# Altium footprint library C4532X7R1C336M250KC.PcbLib: 3 footprints
Each footprint in its own frame and in the unit in brackets; x right, y up, seen from the top. Pads: shape width x height; smd on the part's side, far side on the other; paste and mask are expansions set on the pad; w line width, h text height; cw(c..) or ccw(c..) is an arc to the next point about the centre after c.
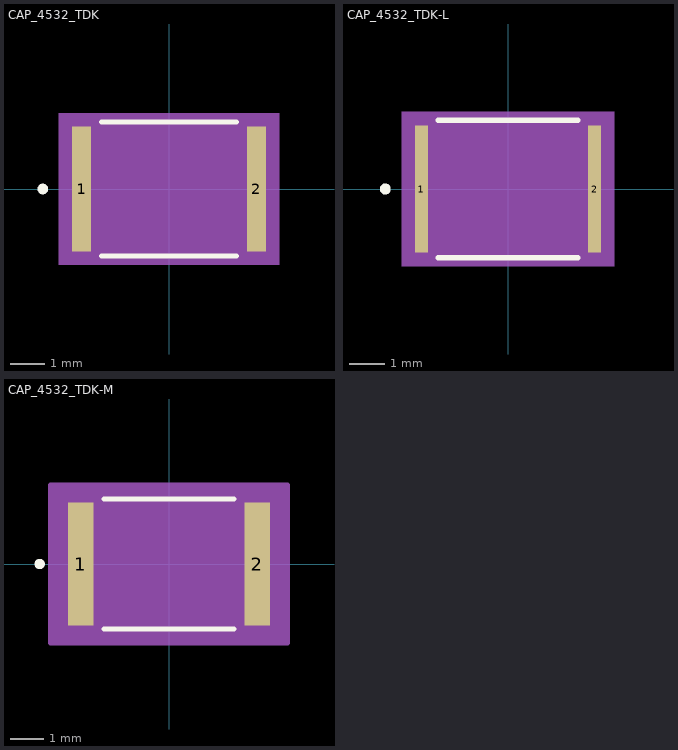
[diagram p0: the footprints below, top view; thin cyan lines are the x and y axes]

## CAP_4532_TDK [mil]
pads (2):
  rect 21.78x142 smd paste+0 mask+0: 1(-99.39,0) 2(99.39,0)
Top Overlay:
  circle w6: c-143.28,0 r3
  lines w6: -76.39,-76 76.39,-76 ; -76.39,76 76.39,76
Mechanical 5:
  region: 125.28,-86 -125.28,-86 -125.28,86 125.28,86
Mechanical 13:
  circle w0: c-94.39,0 r3
  lines w1: -96.5,-71 -96.5,71 ; -96.5,-71 -88.5,-71 -88.5,71 -96.5,71 ; -96.5,-71 96.5,-71 ; -96.5,-71 -96.5,71 ; -96.5,71 96.5,71 ; 96.5,-71 88.5,-71 88.5,71 96.5,71 ; 96.5,-71 96.5,71 ; 96.5,-71 96.5,71
Mechanical 15:
  region: 120.28,-81 -120.28,-81 -120.28,81 120.28,81
  lines w6: -120.28,-81 -120.28,81 120.28,81 120.28,-81 -120.28,-81
3D body "CAP_4532_TDK.step": height 110, standoff 0, extent -96.5,-70.98 96.5,70.98

## CAP_4532_TDK-L [mil]
pads (2):
  rect 13.91x140.03 smd paste+0 mask+0: 1(-95.45,0) 2(95.45,0)
Top Overlay:
  circle w6: c-135.41,0 r3
  lines w6: -76.85,-76 76.85,-76 ; -76.85,76 76.85,76
Mechanical 5:
  region: 117.41,-85.02 -117.41,-85.02 -117.41,85.02 117.41,85.02
Mechanical 13:
  circle w0: c-90.45,0 r3
  lines w1: -96.5,-71 -96.5,71 ; -96.5,-71 -88.5,-71 -88.5,71 -96.5,71 ; -96.5,-71 96.5,-71 ; -96.5,-71 -96.5,71 ; -96.5,71 96.5,71 ; 96.5,-71 88.5,-71 88.5,71 96.5,71 ; 96.5,-71 96.5,71 ; 96.5,-71 96.5,71
Mechanical 15:
  region: 106.41,-74.02 -106.41,-74.02 -106.41,74.02 106.41,74.02
  lines w6: -106.41,-74.02 -106.41,74.02 106.41,74.02 106.41,-74.02 -106.41,-74.02
3D body "CAP_4532_TDK.step": height 110, standoff 0, extent -96.5,-70.98 96.5,70.98

## CAP_4532_TDK-M [mil]
pads (2):
  rect 29.65x143.97 smd paste+0 mask+0: 1(-103.33,0) 2(103.33,0)
Top Overlay:
  circle w6: c-151.15,0 r3
  lines w6: -76.03,-76 76.03,-76 ; -76.03,76 76.03,76
Mechanical 5:
  region: 133.15,-86.98 -133.15,-86.98 -133.15,86.98 133.15,86.98
Mechanical 13:
  circle w0: c-98.33,0 r3
  lines w1: -96.5,-71 -96.5,71 ; -96.5,-71 -88.5,-71 -88.5,71 -96.5,71 ; -96.5,-71 96.5,-71 ; -96.5,-71 -96.5,71 ; -96.5,71 96.5,71 ; 96.5,-71 88.5,-71 88.5,71 96.5,71 ; 96.5,-71 96.5,71 ; 96.5,-71 96.5,71
Mechanical 15:
  region: 138.15,-91.98 -138.15,-91.98 -138.15,91.98 138.15,91.98
  lines w6: -138.15,-91.98 -138.15,91.98 138.15,91.98 138.15,-91.98 -138.15,-91.98
3D body "CAP_4532_TDK.step": height 110, standoff 0, extent -96.5,-70.98 96.5,70.98